# EAGLE library part GSM_SIM808_LITERAL (library adafruit)
SIM808 GSM Module
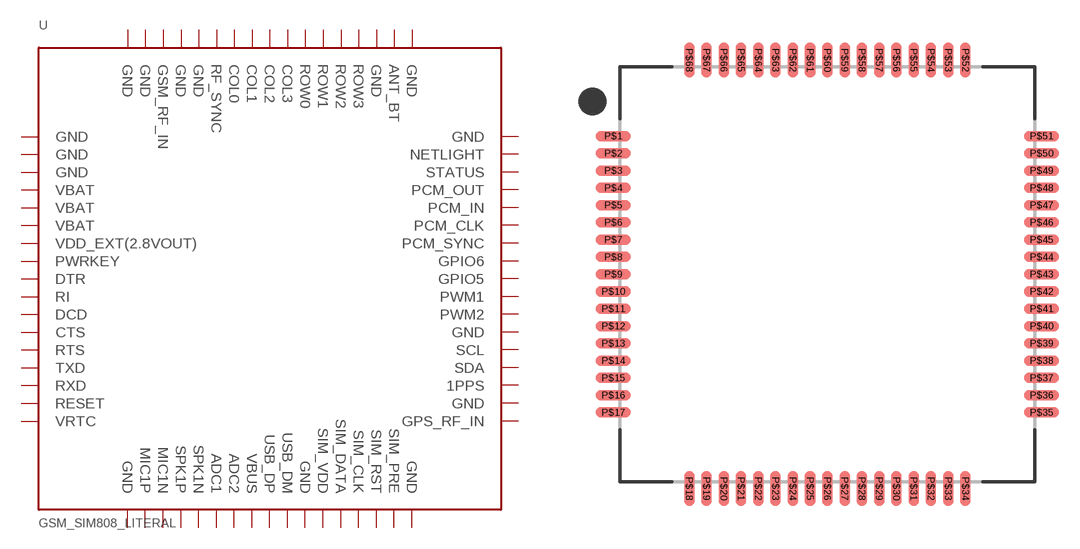
[diagram p109: symbol with the pads of SIM900_SMT; footprint SIM900_SMT]

Designator prefix U

## GSM_SIM808_LITERAL  [SIM900_SMT]
P$1  GND  pwr
P$2  GND  pwr
P$3  GND  pwr
P$4  VBAT  pwr
P$5  VBAT  pwr
P$6  VBAT  pwr
P$7  VDD_EXT(2.8VOUT)  pwr
P$8  PWRKEY  in
P$9  DTR  in
P$10  RI  out
P$11  DCD  out
P$12  CTS  out
P$13  RTS  in
P$14  TXD  out
P$15  RXD  in
P$16  RESET  in
P$17  VRTC  pwr
P$18  GND  pwr
P$19  MIC1P  in
P$20  MIC1N  in
P$21  SPK1P  out
P$22  SPK1N  out
P$23  ADC1  in
P$24  ADC2  in
P$25  VBUS  pwr
P$26  USB_DP
P$27  USB_DM
P$28  GND  pwr
P$29  SIM_VDD  pwr
P$30  SIM_DATA
P$31  SIM_CLK  out
P$32  SIM_RST  out
P$33  SIM_PRE  in
P$34  GND  pwr
P$35  GPS_RF_IN
P$36  GND  pwr
P$37  1PPS  in
P$38  SDA
P$39  SCL  out
P$40  GND  pwr
P$41  PWM2  out
P$42  PWM1  out
P$43  GPIO5
P$44  GPIO6
P$45  PCM_SYNC  out
P$46  PCM_CLK  in
P$47  PCM_IN  in
P$48  PCM_OUT  out
P$49  STATUS  out
P$50  NETLIGHT  out
P$51  GND  pwr
P$52  GND  pwr
P$53  ANT_BT
P$54  GND  pwr
P$55  ROW3  out
P$56  ROW2  out
P$57  ROW1  out
P$58  ROW0  out
P$59  COL3  in
P$60  COL2  in
P$61  COL1  in
P$62  COL0  in
P$63  RF_SYNC  out
P$64  GND  pwr
P$65  GND  pwr
P$66  GSM_RF_IN  in
P$67  GND  pwr
P$68  GND  pwr

## Footprint SIM900_SMT (pad centres in mm)
smd 2 x 0.6: P$1 -12.4,8; P$2 -12.4,7; P$3 -12.4,6; P$4 -12.4,5; P$5 -12.4,4; P$6 -12.4,3; P$7 -12.4,2; P$8 -12.4,1; P$9 -12.4,0; P$10 -12.4,-1; P$11 -12.4,-2; P$12 -12.4,-3; P$13 -12.4,-4; P$14 -12.4,-5; P$15 -12.4,-6; P$16 -12.4,-7; P$17 -12.4,-8; P$35 12.4,-8; P$36 12.4,-7; P$37 12.4,-6; P$38 12.4,-5; P$39 12.4,-4; P$40 12.4,-3; P$41 12.4,-2; P$42 12.4,-1; P$43 12.4,0; P$44 12.4,1; P$45 12.4,2; P$46 12.4,3; P$47 12.4,4; P$48 12.4,5; P$49 12.4,6; P$50 12.4,7; P$51 12.4,8
smd 0.6 x 2: P$18 -8,-12.4; P$19 -7,-12.4; P$20 -6,-12.4; P$21 -5,-12.4; P$22 -4,-12.4; P$23 -3,-12.4; P$24 -2,-12.4; P$25 -1,-12.4; P$26 0,-12.4; P$27 1,-12.4; P$28 2,-12.4; P$29 3,-12.4; P$30 4,-12.4; P$31 5,-12.4; P$32 6,-12.4; P$33 7,-12.4; P$34 8,-12.4; P$52 8,12.4; P$53 7,12.4; P$54 6,12.4; P$55 5,12.4; P$56 4,12.4; P$57 3,12.4; P$58 2,12.4; P$59 1,12.4; P$60 0,12.4; P$61 -1,12.4; P$62 -2,12.4; P$63 -3,12.4; P$64 -4,12.4; P$65 -5,12.4; P$66 -6,12.4; P$67 -7,12.4; P$68 -8,12.4